# Altium schematic symbol library 74Series.SchLib: 32 symbols
Pins are listed as number, name and electrical type; pins without a type are passive.

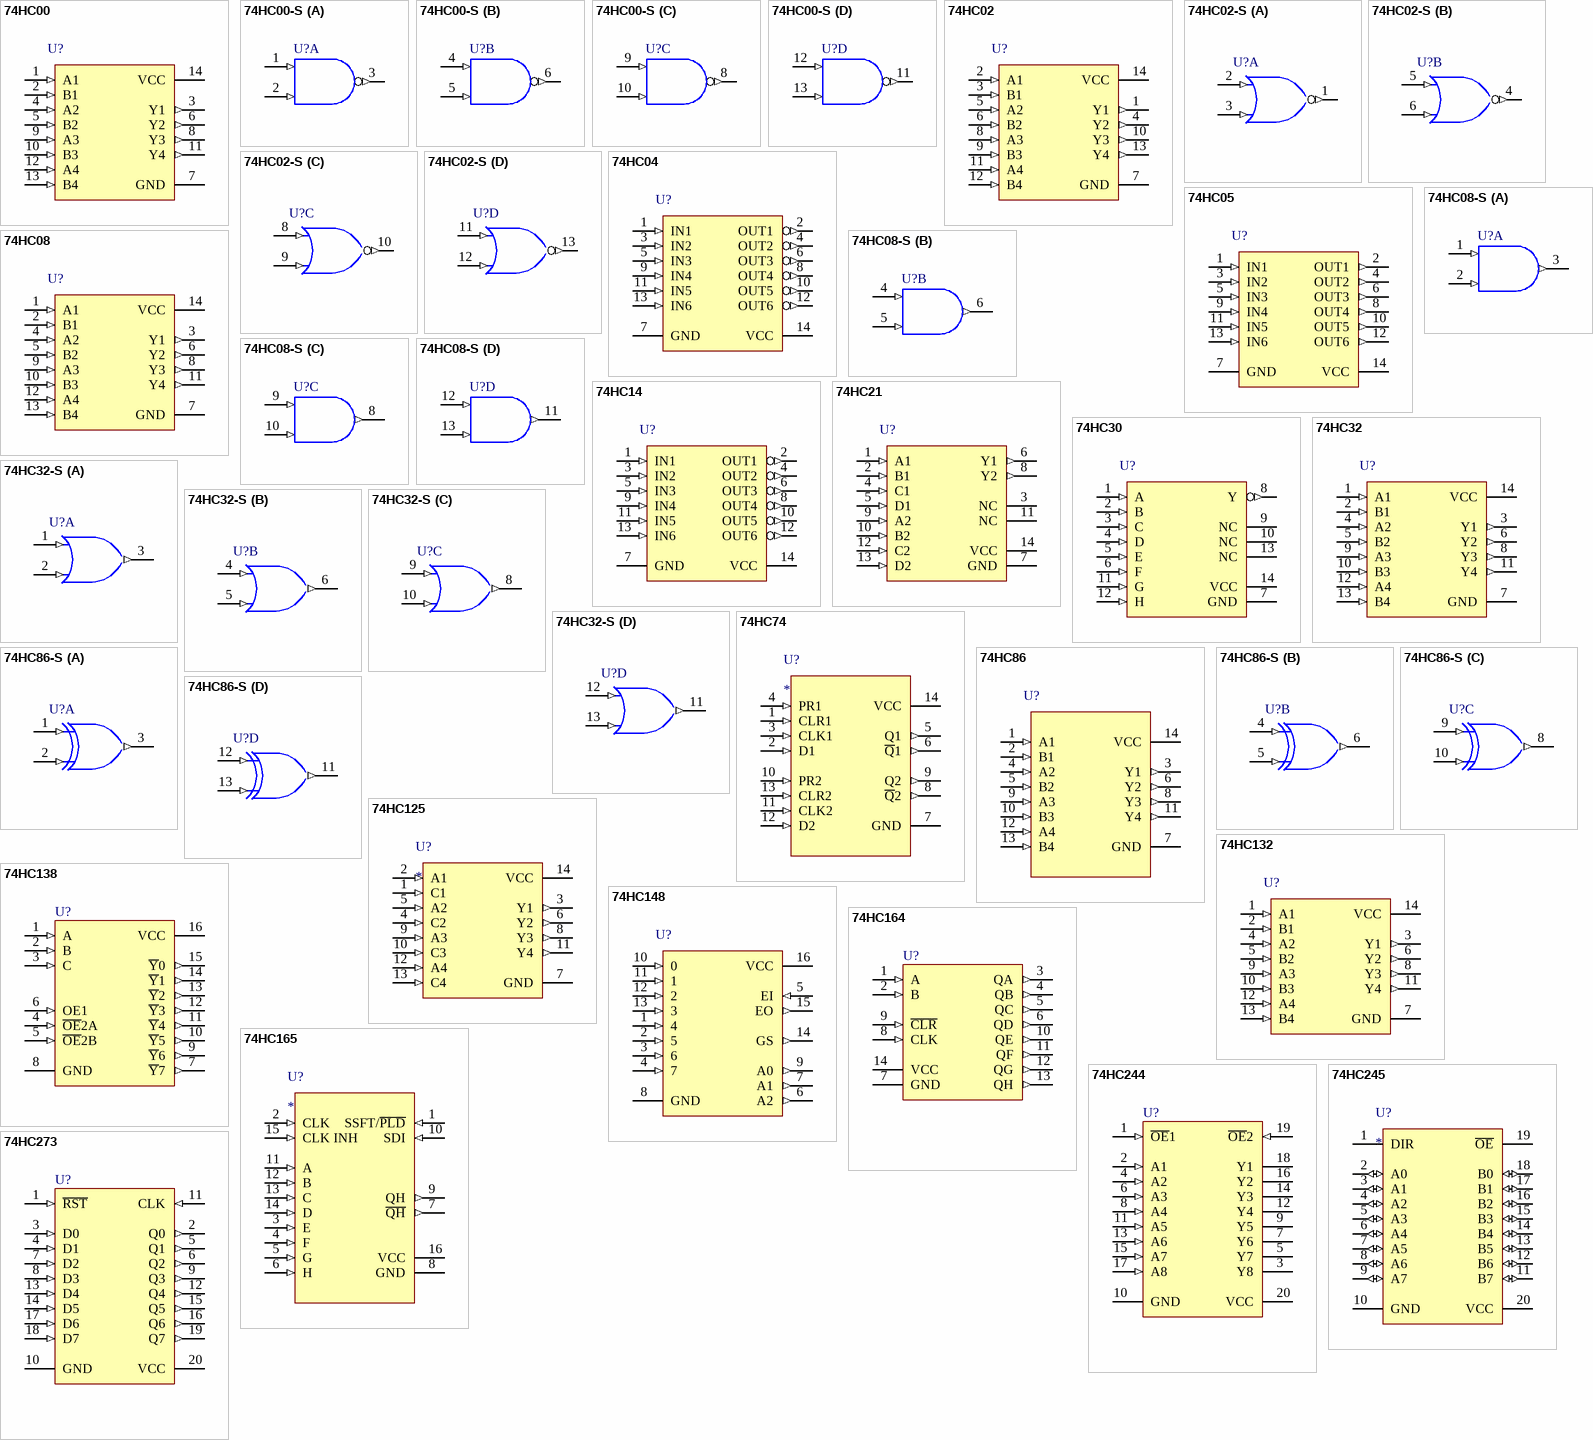
[diagram p0: symbols 74HC00 to 74HC273]

## 74HC00
designator U?
四2输入与非门
footprint DIP14
pins: 1 A1 (in), 2 B1 (in), 3 Y1 (out), 4 A2 (in), 5 B2 (in), 6 Y2 (out), 7 GND (power), 8 Y3 (out), 9 A3 (in), 10 B3 (in), 11 Y4 (out), 12 A4 (in), 13 B4 (in), 14 VCC (power)

## 74HC00-S
designator U?
四2输入与非门; Published: 8-Jun-2000; LatestRevisionDate: 04-Mar-2005; LatestRevisionNote: Stylized 3D Model Added.; DatasheetVersion: May-1997; PackageVersion: Oct-1995; PackageReference: N014; Publisher: Altium Limited; PackageDescription: DIP; 14 Leads; Row Spacing 7.62 mm; Pitch 2.54 mm; ComponentLink1Description: Manufacturer Link; ComponentLink1URL: http://www.ti.com/; ComponentLink2Description: Datasheet; ComponentLink2URL: http://www-s.ti.com/sc/ds/sn74hc00.pdf
footprint DIP14
pins on every part: 7 GND (power) hidden to GND, 14 VCC (power) hidden to VCC
part A pins: 1 A (in), 2 B (in), 3 Y (out)
part B pins: 4 A (in), 5 B (in), 6 Y (out)
part C pins: 8 Y (out), 9 A (in), 10 B (in)
part D pins: 11 Y (out), 12 A (in), 13 B (in)

## 74HC02
designator U?
四2输入与或门
footprint DIP14
pins: 1 Y1 (out), 2 A1 (in), 3 B1 (in), 4 Y2 (out), 5 A2 (in), 6 B2 (in), 7 GND (power), 8 A3 (in), 9 B3 (in), 10 Y3 (out), 11 A4 (in), 12 B4 (in), 13 Y4 (out), 14 VCC (power)

## 74HC02-S
designator U?
四2输入与或门; Published: 8-Jun-2000; LatestRevisionDate: 04-Mar-2005; LatestRevisionNote: Stylized 3D Model Added.; DatasheetVersion: May-1997; PackageVersion: Oct-1995; PackageReference: N014; Publisher: Altium Limited; PackageDescription: DIP; 14 Leads; Row Spacing 7.62 mm; Pitch 2.54 mm; ComponentLink1Description: Manufacturer Link; ComponentLink1URL: http://www.ti.com/; ComponentLink2Description: Datasheet; ComponentLink2URL: http://www-s.ti.com/sc/ds/sn74hc02.pdf
footprint DIP14
pins on every part: 7 GND (power) hidden to GND, 14 VCC (power) hidden to VCC
part A pins: 1 Y (out), 2 A (in), 3 B (in)
part B pins: 4 Y (out), 5 A (in), 6 B (in)
part C pins: 8 A (in), 9 B (in), 10 Y (out)
part D pins: 11 A (in), 12 B (in), 13 Y (out)

## 74HC04
designator U?
六反向器
footprint SOP14
footprint DIP14
pins: 1 IN1 (in), 2 OUT1 (out), 3 IN2 (in), 4 OUT2 (out), 5 IN3 (in), 6 OUT3 (out), 7 GND (power), 8 OUT4 (out), 9 IN4 (in), 10 OUT5 (out), 11 IN5 (in), 12 OUT6 (out), 13 IN6 (in), 14 VCC (power)

## 74HC05
designator U?
六反向器（开漏）
footprint DIP14
pins: 1 IN1 (in), 2 OUT1 (out), 3 IN2 (in), 4 OUT2 (out), 5 IN3 (in), 6 OUT3 (out), 7 GND (power), 8 OUT4 (out), 9 IN4 (in), 10 OUT5 (out), 11 IN5 (in), 12 OUT6 (out), 13 IN6 (in), 14 VCC (power)

## 74HC08
designator U?
四2输入与门
footprint DIP14
pins: 1 A1 (in), 2 B1 (in), 3 Y1 (out), 4 A2 (in), 5 B2 (in), 6 Y2 (out), 7 GND (power), 8 Y3 (out), 9 A3 (in), 10 B3 (in), 11 Y4 (out), 12 A4 (in), 13 B4 (in), 14 VCC (power)

## 74HC08-S
designator U?
四2输入与门; Published: 8-Jun-2000; LatestRevisionDate: 04-Mar-2005; LatestRevisionNote: Stylized 3D Model Added.; DatasheetVersion: May-1997; PackageVersion: Oct-1995; PackageReference: N014; Publisher: Altium Limited; PackageDescription: DIP; 14 Leads; Row Spacing 7.62 mm; Pitch 2.54 mm; ComponentLink1Description: Manufacturer Link; ComponentLink1URL: http://www.ti.com/; ComponentLink2Description: Datasheet; ComponentLink2URL: http://www-s.ti.com/sc/ds/SN74HC08.pdf
footprint DIP14
pins on every part: 7 GND (power) hidden to GND, 14 VCC (power) hidden to VCC
part A pins: 1 A (in), 2 B (in), 3 Y (out)
part B pins: 4 A (in), 5 B (in), 6 Y (out)
part C pins: 8 Y (out), 9 A (in), 10 B (in)
part D pins: 11 Y (out), 12 A (in), 13 B (in)

## 74HC14
designator U?
六施密特触发反相器
footprint SOP14
footprint DIP14
pins: 1 IN1 (in), 2 OUT1 (out), 3 IN2 (in), 4 OUT2 (out), 5 IN3 (in), 6 OUT3 (out), 7 GND (power), 8 OUT4 (out), 9 IN4 (in), 10 OUT5 (out), 11 IN5 (in), 12 OUT6 (out), 13 IN6 (in), 14 VCC (power)

## 74HC21
designator U?
双4输入与门
footprint DIP14
pins: 1 A1 (in), 2 B1 (in), 3 NC, 4 C1 (in), 5 D1 (in), 6 Y1 (out), 7 GND, 8 Y2 (out), 9 A2 (in), 10 B2 (in), 11 NC, 12 C2 (in), 13 D2 (in), 14 VCC

## 74HC30
designator U?
8输入与非门
footprint DIP14
pins: 1 A (in), 2 B (in), 3 C (in), 4 D (in), 5 E (in), 6 F (in), 7 GND (power), 8 Y (out), 9 NC, 10 NC, 11 G (in), 12 H (in), 13 NC, 14 VCC (power)

## 74HC32
designator U?
四2输入或门
footprint DIP14
pins: 1 A1 (in), 2 B1 (in), 3 Y1 (out), 4 A2 (in), 5 B2 (in), 6 Y2 (out), 7 GND (power), 8 Y3 (out), 9 A3 (in), 10 B3 (in), 11 Y4 (out), 12 A4 (in), 13 B4 (in), 14 VCC (power)

## 74HC32-S
designator U?
四2输入或门; Published: 8-Jun-2000; LatestRevisionDate: 04-Mar-2005; LatestRevisionNote: Stylized 3D Model Added.; DatasheetVersion: May-1997; PackageVersion: Oct-1995; PackageReference: N014; Publisher: Altium Limited; PackageDescription: DIP; 14 Leads; Row Spacing 7.62 mm; Pitch 2.54 mm; ComponentLink1Description: Manufacturer Link; ComponentLink1URL: http://www.ti.com/; ComponentLink2Description: Datasheet; ComponentLink2URL: http://www-s.ti.com/sc/ds/sn74hc32.pdf
footprint DIP14
pins on every part: 7 GND (power) hidden to GND, 14 VCC (power) hidden to VCC
part A pins: 1 A (in), 2 B (in), 3 Y (out)
part B pins: 4 A (in), 5 B (in), 6 Y (out)
part C pins: 8 Y (out), 9 A (in), 10 B (in)
part D pins: 11 Y (out), 12 A (in), 13 B (in)

## 74HC74
designator U?
带置位复位正触发双D触发器
footprint DIP14
pins: 1 CLR1 (in), 2 D1 (in), 3 CLK1 (in), 4 PR1 (in), 5 Q1 (out), 6 ~{Q}1 (out), 7 GND (power), 8 ~{Q}2 (out), 9 Q2 (out), 10 PR2 (in), 11 CLK2 (in), 12 D2 (in), 13 CLR2 (in), 14 VCC (power)

## 74HC86
designator U?
四2输入异或门
footprint DIP14
pins: 1 A1 (in), 2 B1 (in), 3 Y1 (out), 4 A2 (in), 5 B2 (in), 6 Y2 (out), 7 GND (power), 8 Y3 (out), 9 A3 (in), 10 B3 (in), 11 Y4 (out), 12 A4 (in), 13 B4 (in), 14 VCC (power)

## 74HC86-S
designator U?
四2输入异或门; Published: 8-Jun-2000; LatestRevisionDate: 04-Mar-2005; LatestRevisionNote: Stylized 3D Model Added.; DatasheetVersion: Aug-1999; PackageVersion: Oct-1995; PackageReference: N014; Publisher: Altium Limited; PackageDescription: DIP; 14 Leads; Row Spacing 7.62 mm; Pitch 2.54 mm; ComponentLink1Description: Manufacturer Link; ComponentLink1URL: http://www.ti.com/; ComponentLink2Description: Datasheet; ComponentLink2URL: http://www-s.ti.com/sc/ds/SN54HC86.pdf
footprint DIP14
pins on every part: 7 GND (power) hidden to GND, 14 VCC (power) hidden to VCC
part A pins: 1 A (in), 2 B (in), 3 Y (out)
part B pins: 4 A (in), 5 B (in), 6 Y (out)
part C pins: 8 Y (out), 9 A (in), 10 B (in)
part D pins: 11 Y (out), 12 A (in), 13 B (in)

## 74HC125
designator U?
四总线缓冲器
footprint DIP14
pins: 1 C1 (in), 2 A1 (in), 3 Y1 (out), 4 C2 (in), 5 A2 (in), 6 Y2 (out), 7 GND (power), 8 Y3 (out), 9 A3 (in), 10 C3 (in), 11 Y4 (out), 12 A4 (in), 13 C4 (in), 14 VCC (power)

## 74HC132
designator U?
四2输入与非（施密特触发器）
footprint DIP14
pins: 1 A1 (in), 2 B1 (in), 3 Y1 (out), 4 A2 (in), 5 B2 (in), 6 Y2 (out), 7 GND (power), 8 Y3 (out), 9 A3 (in), 10 B3 (in), 11 Y4 (out), 12 A4 (in), 13 B4 (in), 14 VCC (power)

## 74HC138
designator U?
三八解码器; Published: 8-Jun-2000; LatestRevisionDate: 04-Mar-2005; LatestRevisionNote: Stylized 3D Model Added.; DatasheetVersion: May-1997; PackageVersion: Oct-1995; PackageReference: N016; Publisher: Altium Limited; PackageDescription: DIP; 16 Leads; Row Spacing 7.62 mm; Pitch 2.54 mm; Code_JEDEC: MS-001-BB; ComponentLink1Description: Manufacturer Link; ComponentLink1URL: http://www.ti.com/; ComponentLink2Description: Datasheet; ComponentLink2URL: http://www-s.ti.com/sc/ds/sn74hc138.pdf
footprint DIP16
footprint SOP16
pins: 1 A (in), 2 B (in), 3 C (in), 4 ~{OE}2A (in), 5 ~{OE}2B (in), 6 OE1 (in), 7 ~{Y}7 (out), 8 GND (power), 9 ~{Y}6 (out), 10 ~{Y}5 (out), 11 ~{Y}4 (out), 12 ~{Y}3 (out), 13 ~{Y}2 (out), 14 ~{Y}1 (out), 15 ~{Y}0 (out), 16 VCC (power)

## 74HC148
designator U?
八三编码器
footprint DIP16
pins: 1 4 (in), 2 5 (in), 3 6 (in), 4 7 (in), 5 EI (in), 6 A2 (out), 7 A1 (out), 8 GND (power), 9 A0 (out), 10 0 (in), 11 1 (in), 12 2 (in), 13 3 (in), 14 GS (out), 15 EO (out), 16 VCC (power)

## 74HC164
designator U?
8位并行输出串行移位寄存器; Published: 8-Jun-2000; LatestRevisionDate: 04-Mar-2005; LatestRevisionNote: Stylized 3D Model Added.; DatasheetVersion: May-1997; PackageVersion: Oct-1995; PackageReference: N014; Publisher: Altium Limited; PackageDescription: DIP; 14 Leads; Row Spacing 7.62 mm; Pitch 2.54 mm; ComponentLink1Description: Manufacturer Link; ComponentLink1URL: http://www.ti.com/; ComponentLink2Description: Datasheet; ComponentLink2URL: http://www-s.ti.com/sc/ds/sn74hc164.pdf
footprint DIP14
pins: 1 A (in), 2 B (in), 3 QA (out), 4 QB (out), 5 QC (out), 6 QD (out), 7 GND (power), 8 CLK (in), 9 ~{CLR} (in), 10 QE (out), 11 QF (out), 12 QG (out), 13 QH (out), 14 VCC (power)

## 74HC165
designator U?
移位寄存器
footprint DIP16
pins: 1 SSFT/~{PLD} (in), 2 CLK (in), 3 E (in), 4 F (in), 5 G (in), 6 H (in), 7 ~{QH} (out), 8 GND (power), 9 QH (out), 10 SDI (in), 11 A (in), 12 B (in), 13 C (in), 14 D (in), 15 CLK INH (in), 16 VCC (power)

## 74HC244
designator U?
八进制缓冲器和线路驱动器，三态输出; Published: 8-Jun-2000; LatestRevisionDate: 06-Jun-2005; LatestRevisionNote: Stylized 3D Model Added.; DatasheetVersion: May-1997; PackageVersion: Oct-1995; PackageReference: N020; Publisher: Altium Limited; PackageDescription: DIP; 20 Leads; Row Spacing 7.62 mm; Pitch 2.54 mm; ComponentLink1Description: Manufacturer Link; ComponentLink1URL: http://www.ti.com/; ComponentLink2Description: Datasheet; ComponentLink2URL: http://www-s.ti.com/sc/ds/sn74hc244.pdf
footprint DIP20 (DIP; 20 Leads; Row Spacing 7.62 mm; Pitch 2.54 mm)
footprint SOP20
pins: 1 ~{OE}1 (in), 2 A1 (in), 3 Y8 (hiz), 4 A2 (in), 5 Y7 (hiz), 6 A3 (in), 7 Y6 (hiz), 8 A4 (in), 9 Y5 (hiz), 10 GND (power), 11 A5 (in), 12 Y4 (hiz), 13 A6 (in), 14 Y3 (hiz), 15 A7 (in), 16 Y2 (hiz), 17 A8 (in), 18 Y1 (hiz), 19 ~{OE}2 (in), 20 VCC (power)

## 74HC245
designator U?
八同相三态总线收发器
footprint DIP20 (DIP; 20 Leads; Row Spacing 7.62 mm; Pitch 2.54 mm)
pins: 1 DIR, 2 A0 (io), 3 A1 (io), 4 A2 (io), 5 A3 (io), 6 A4 (io), 7 A5 (io), 8 A6 (io), 9 A7 (io), 10 GND (power), 11 B7 (io), 12 B6 (io), 13 B5 (io), 14 B4 (io), 15 B3 (io), 16 B2 (io), 17 B1 (io), 18 B0 (io), 19 ~{OE}, 20 VCC

## 74HC273
designator U?
八路D触发器; Published: 8-Jun-2000; LatestRevisionDate: 04-Mar-2005; LatestRevisionNote: Stylized 3D Model Added.; DatasheetVersion: May-1997; PackageVersion: Oct-1995; PackageReference: N020; Publisher: Altium Limited; PackageDescription: DIP; 20 Leads; Row Spacing 7.62 mm; Pitch 2.54 mm; ComponentLink1Description: Manufacturer Link; ComponentLink1URL: http://www.ti.com/; ComponentLink2Description: Datasheet; ComponentLink2URL: http://www-s.ti.com/sc/ds/sn74hc273.pdf
footprint DIP20 (DIP; 20 Leads; Row Spacing 7.62 mm; Pitch 2.54 mm)
pins: 1 ~{RST} (in), 2 Q0 (out), 3 D0 (in), 4 D1 (in), 5 Q1 (out), 6 Q2 (out), 7 D2 (in), 8 D3 (in), 9 Q3 (out), 10 GND (power), 11 CLK (in), 12 Q4 (out), 13 D4 (in), 14 D5 (in), 15 Q5 (out), 16 Q6 (out), 17 D6 (in), 18 D7 (in), 19 Q7 (out), 20 VCC (power)

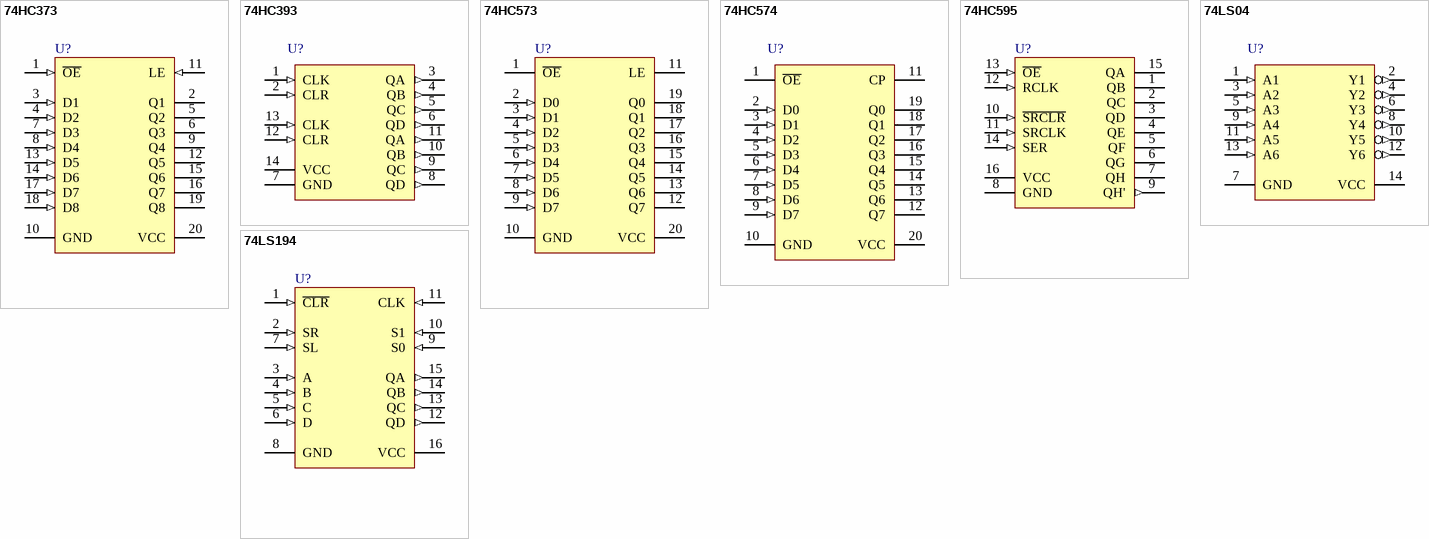
[diagram p1: symbols 74HC373 to 74LS194]

## 74HC373
designator U?
八D锁存器，三态输出; Published: 8-Jun-2000; LatestRevisionDate: 04-Mar-2005; LatestRevisionNote: Stylized 3D Model Added.; DatasheetVersion: May-1997; PackageVersion: Oct-1995; PackageReference: N020; Publisher: Altium Limited; PackageDescription: DIP; 20 Leads; Row Spacing 7.62 mm; Pitch 2.54 mm; ComponentLink1Description: Manufacturer Link; ComponentLink1URL: http://www.ti.com/; ComponentLink2Description: Datasheet; ComponentLink2URL: http://www-s.ti.com/sc/ds/sn54hc373.pdf
footprint DIP20 (DIP; 20 Leads; Row Spacing 7.62 mm; Pitch 2.54 mm)
pins: 1 ~{OE} (in), 2 Q1 (hiz), 3 D1 (in), 4 D2 (in), 5 Q2 (hiz), 6 Q3 (hiz), 7 D3 (in), 8 D4 (in), 9 Q4 (hiz), 10 GND (power), 11 LE (in), 12 Q5 (hiz), 13 D5 (in), 14 D6 (in), 15 Q6 (hiz), 16 Q7 (hiz), 17 D7 (in), 18 D8 (in), 19 Q8 (hiz), 20 VCC (power)

## 74HC393
designator U?
双4位二进制计数器
footprint DIP14
pins: 1 CLK (in), 2 CLR (in), 3 QA (out), 4 QB (out), 5 QC (out), 6 QD (out), 7 GND (power), 8 QD (out), 9 QC (out), 10 QB (out), 11 QA (out), 12 CLR (in), 13 CLK (in), 14 VCC (power)

## 74HC573
designator U?
八D锁存器，三态输出; Published: 8-Jun-2000; LatestRevisionDate: 04-Mar-2005; LatestRevisionNote: Stylized 3D Model Added.; DatasheetVersion: Jun-1989; PackageVersion: Oct-1995; PackageReference: N020D; Publisher: Altium Limited; PackageDescription: DIP; 20 Leads; Row Spacing 7.62 mm; Pitch 2.54 mm; ComponentLink1Description: Manufacturer Link; ComponentLink1URL: http://www.ti.com/
footprint DIP20 (DIP; 20 Leads; Row Spacing 7.62 mm; Pitch 2.54 mm)
footprint SOP20-W
pins: 1 ~{OE}, 2 D0 (in), 3 D1 (in), 4 D2 (in), 5 D3 (in), 6 D4 (in), 7 D5 (in), 8 D6 (in), 9 D7 (in), 10 GND (power), 11 LE, 12 Q7, 13 Q6, 14 Q5, 15 Q4, 16 Q3, 17 Q2, 18 Q1, 19 Q0, 20 VCC (power)

## 74HC574
designator U?
八D触发器
footprint DIP20 (DIP; 20 Leads; Row Spacing 7.62 mm; Pitch 2.54 mm)
pins: 1 ~{OE}, 2 D0 (in), 3 D1 (in), 4 D2 (in), 5 D3 (in), 6 D4 (in), 7 D5 (in), 8 D6 (in), 9 D7 (in), 10 GND (power), 11 CP, 12 Q7, 13 Q6, 14 Q5, 15 Q4, 16 Q3, 17 Q2, 18 Q1, 19 Q0, 20 VCC (power)

## 74HC595
designator U?
8位移位/三态输出寄存器; Published: 8-Jun-2000; LatestRevisionDate: 13-Apr-2006; LatestRevisionNote: IPC-7351 Footprint Added.; DatasheetVersion: May-1997; PackageVersion: Jan-1998; PackageReference: D016; Publisher: Altium Limited; PackageDescription: 16-Pin Small Outline Integrated Circuit 1.27 mm Pitch; Code_IPC: SOIC127P600-16; ComponentLink1Description: Manufacturer Link; ComponentLink1URL: http://www.ti.com/; ComponentLink2Description: Datasheet; ComponentLink2URL: http://www-s.ti.com/sc/ds/sn74hc595.pdf
footprint DIP16
footprint SOP16
pins: 1 QB (hiz), 2 QC (hiz), 3 QD (hiz), 4 QE (hiz), 5 QF (hiz), 6 QG (hiz), 7 QH (hiz), 8 GND (power), 9 QH' (out), 10 ~{SRCLR} (in), 11 SRCLK (in), 12 RCLK (in), 13 ~{OE} (in), 14 SER (in), 15 QA (hiz), 16 VCC (power)

## 74LS04
designator U?
六反向器
footprint SOP14
pins: 1 A1 (in), 2 Y1 (out), 3 A2 (in), 4 Y2 (out), 5 A3 (in), 6 Y3 (out), 7 GND (power), 8 Y4 (out), 9 A4 (in), 10 Y5 (out), 11 A5 (in), 12 Y6 (out), 13 A6 (in), 14 VCC (power)

## 74LS194
designator U?
4位双向通用移位寄存器; Published: 8-Jun-2000; LatestRevisionDate: 04-Mar-2005; LatestRevisionNote: Stylized 3D Model Added.; DatasheetVersion: Mar-1988; PackageVersion: Oct-1995; PackageReference: N016; Publisher: Altium Limited; PackageDescription: DIP; 16 Leads; Row Spacing 7.62 mm; Pitch 2.54 mm; Code_JEDEC: MS-001-BB; ComponentLink1Description: Manufacturer Link; ComponentLink1URL: http://www.ti.com/; ComponentLink2Description: Datasheet; ComponentLink2URL: http://www-s.ti.com/sc/ds/sn74ls194a.pdf
footprint DIP16
pins: 1 ~{CLR} (in), 2 SR (in), 3 A (in), 4 B (in), 5 C (in), 6 D (in), 7 SL (in), 8 GND (power), 9 S0 (in), 10 S1 (in), 11 CLK (in), 12 QD (out), 13 QC (out), 14 QB (out), 15 QA (out), 16 VCC (power)